# Altium schematic symbol library ECS-200-8-37CKM.SchLib: 1 symbol
Pins are listed as number, name and electrical type; pins without a type are passive.

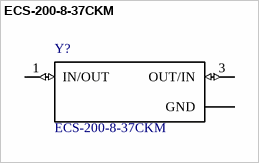
[diagram p0: symbol ECS-200-8-37CKM]

## ECS-200-8-37CKM
designator Y?
Crystal 20MHz 8pF 4-Pin CSMD; MF: ECS Inc.; Digi-Key_Part_Number: XC1542CT-ND; Package: SMD-4 ECS International; Digi-Key_Purchase_URL: https://www.digikey.ca/product-detail/en/ecs-inc/ECS-200-8-37CKM/XC1542CT-ND/1693711?utm_source=snapeda&utm_medium=aggregator&utm_campaign=symbol; SnapEDA_Link: https://www.snapeda.com/parts/ECS-200-8-37CKM/ECS%20Inc./view-part/?ref=snap; MP: ECS-200-8-37CKM; Value: *
footprint XTAL_ECS-200-8-37CKM
pins: 1 IN/OUT (io), 2 GND (power), 3 OUT/IN (io), 4 GND (power)